# Altium schematic symbol library LCMXO2-2000HC-4TG100C.SchLib: 1 symbol
Pins are listed as number, name and electrical type; pins without a type are passive.

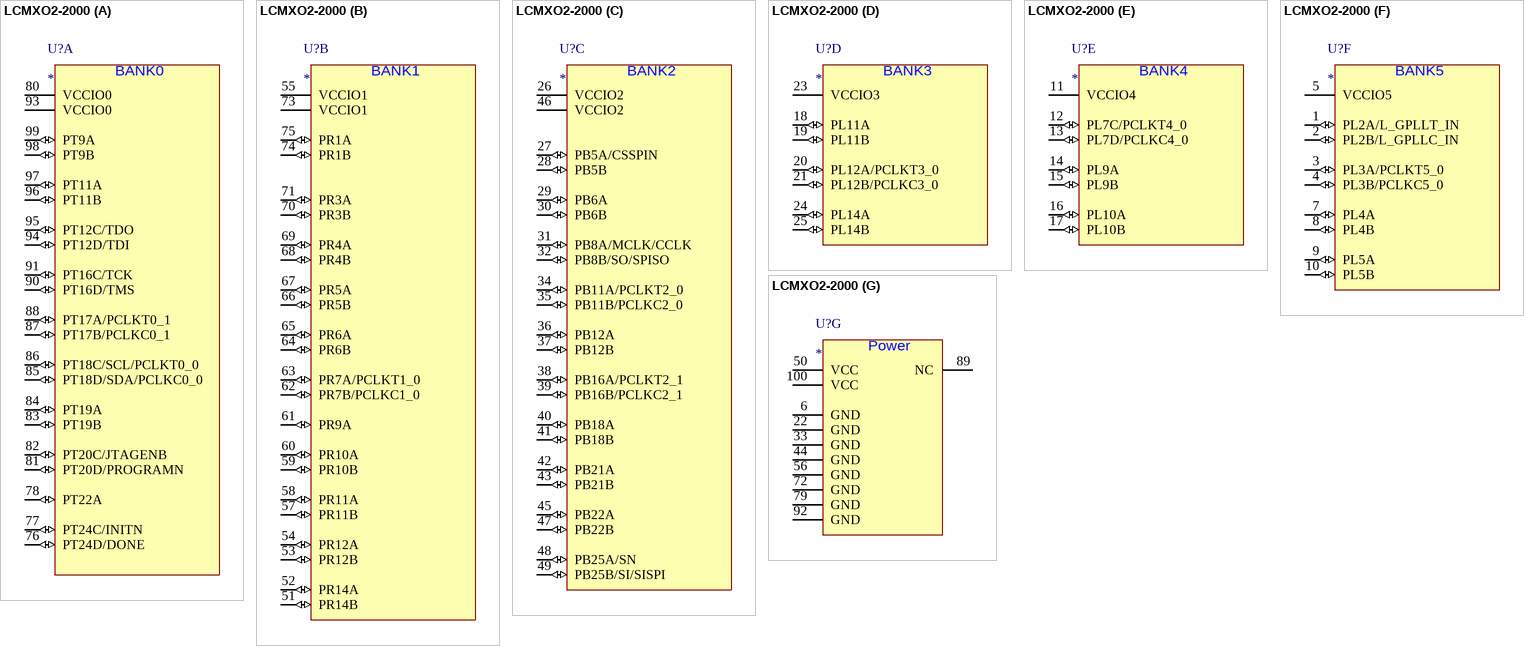
[diagram p0: symbol LCMXO2-2000]

## LCMXO2-2000
designator U?
part A pins: 76 PT24D/DONE (io), 77 PT24C/INITN (io), 78 PT22A (io), 80 VCCIO0 (power), 81 PT20D/PROGRAMN (io), 82 PT20C/JTAGENB (io), 83 PT19B (io), 84 PT19A (io), 85 PT18D/SDA/PCLKC0_0 (io), 86 PT18C/SCL/PCLKT0_0 (io), 87 PT17B/PCLKC0_1 (io), 88 PT17A/PCLKT0_1 (io), 90 PT16D/TMS (io), 91 PT16C/TCK (io), 93 VCCIO0 (power), 94 PT12D/TDI (io), 95 PT12C/TDO (io), 96 PT11B (io), 97 PT11A (io), 98 PT9B (io), 99 PT9A (io)
part B pins: 51 PR14B (io), 52 PR14A (io), 53 PR12B (io), 54 PR12A (io), 55 VCCIO1 (power), 57 PR11B (io), 58 PR11A (io), 59 PR10B (io), 60 PR10A (io), 61 PR9A (io), 62 PR7B/PCLKC1_0 (io), 63 PR7A/PCLKT1_0 (io), 64 PR6B (io), 65 PR6A (io), 66 PR5B (io), 67 PR5A (io), 68 PR4B (io), 69 PR4A (io), 70 PR3B (io), 71 PR3A (io), 73 VCCIO1 (power), 74 PR1B (io), 75 PR1A (io)
part C pins: 26 VCCIO2 (power), 27 PB5A/CSSPIN (io), 28 PB5B (io), 29 PB6A (io), 30 PB6B (io), 31 PB8A/MCLK/CCLK (io), 32 PB8B/SO/SPISO (io), 34 PB11A/PCLKT2_0 (io), 35 PB11B/PCLKC2_0 (io), 36 PB12A (io), 37 PB12B (io), 38 PB16A/PCLKT2_1 (io), 39 PB16B/PCLKC2_1 (io), 40 PB18A (io), 41 PB18B (io), 42 PB21A (io), 43 PB21B (io), 45 PB22A (io), 46 VCCIO2 (power), 47 PB22B (io), 48 PB25A/SN (io), 49 PB25B/SI/SISPI (io)
part D pins: 18 PL11A (io), 19 PL11B (io), 20 PL12A/PCLKT3_0 (io), 21 PL12B/PCLKC3_0 (io), 23 VCCIO3 (power), 24 PL14A (io), 25 PL14B (io)
part E pins: 11 VCCIO4 (power), 12 PL7C/PCLKT4_0 (io), 13 PL7D/PCLKC4_0 (io), 14 PL9A (io), 15 PL9B (io), 16 PL10A (io), 17 PL10B (io)
part F pins: 1 PL2A/L_GPLLT_IN (io), 2 PL2B/L_GPLLC_IN (io), 3 PL3A/PCLKT5_0 (io), 4 PL3B/PCLKC5_0 (io), 5 VCCIO5 (power), 7 PL4A (io), 8 PL4B (io), 9 PL5A (io), 10 PL5B (io)
part G pins: 6 GND (power), 22 GND (power), 33 GND (power), 44 GND (power), 50 VCC (power), 56 GND (power), 72 GND (power), 79 GND (power), 89 NC, 92 GND (power), 100 VCC (power)
part A text: BANK0
part B text: BANK1
part C text: BANK2
part D text: BANK3
part E text: BANK4
part F text: BANK5
part G text: Power